# Altium schematic symbol library Cellular.SchLib: 3 symbols
Pins are listed as number, name and electrical type; pins without a type are passive.

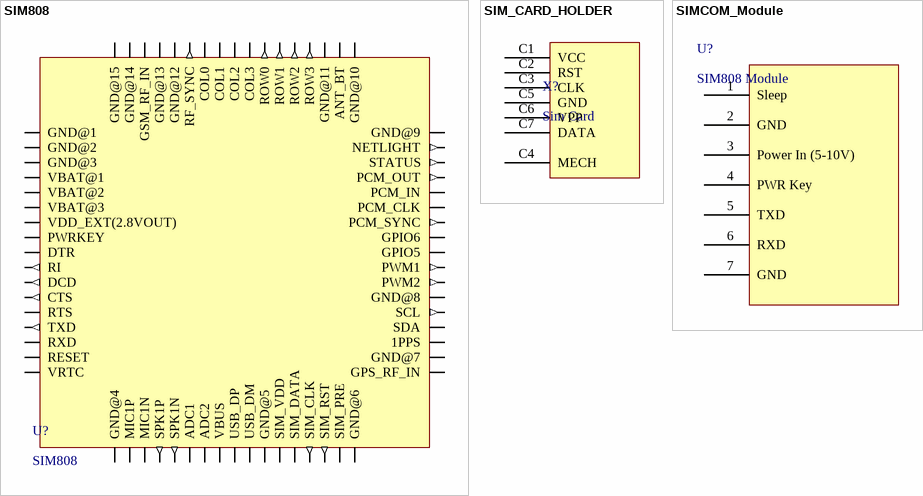
[diagram p0: symbols SIM808 to SIMCOM_Module]

## SIM808
designator U?
GSM, GPRS, GPS Module (2G) by SIMCOM
footprint SIM808
pins: P$1 GND@1 (power), P$2 GND@2 (power), P$3 GND@3 (power), P$4 VBAT@1 (power), P$5 VBAT@2 (power), P$6 VBAT@3 (power), P$7 VDD_EXT(2.8VOUT) (power), P$8 PWRKEY, P$9 DTR, P$10 RI (out), P$11 DCD (out), P$12 CTS (out), P$13 RTS, P$14 TXD (out), P$15 RXD, P$16 RESET, P$17 VRTC (power), P$18 GND@4 (power), P$19 MIC1P, P$20 MIC1N, P$21 SPK1P (out), P$22 SPK1N (out), P$23 ADC1, P$24 ADC2, P$25 VBUS (power), P$26 USB_DP, P$27 USB_DM, P$28 GND@5 (power), P$29 SIM_VDD (power), P$30 SIM_DATA, P$31 SIM_CLK (out), P$32 SIM_RST (out), P$33 SIM_PRE, P$34 GND@6 (power), P$35 GPS_RF_IN, P$36 GND@7 (power), P$37 1PPS, P$38 SDA, P$39 SCL (out), P$40 GND@8 (power), P$41 PWM2 (out), P$42 PWM1 (out), P$43 GPIO5, P$44 GPIO6, P$45 PCM_SYNC (out), P$46 PCM_CLK, P$47 PCM_IN, P$48 PCM_OUT (out), P$49 STATUS (out), P$50 NETLIGHT (out), P$51 GND@9 (power), P$52 GND@10 (power), P$53 ANT_BT, P$54 GND@11 (power), P$55 ROW3 (out), P$56 ROW2 (out), P$57 ROW1 (out), P$58 ROW0 (out), P$59 COL3, P$60 COL2, P$61 COL1, P$62 COL0, P$63 RF_SYNC (out), P$64 GND@12 (power), P$65 GND@13 (power), P$66 GSM_RF_IN, P$67 GND@14 (power), P$68 GND@15 (power)

## SIM_CARD_HOLDER
designator X?, comment Sim Card
Sim card holder with locking; Supplier 1: Farnell; Supplier Part Number 1: 2060729
footprint 47388-2001 (SIM Card Holder)
pins: C1 VCC, C2 RST, C3 CLK, C4 MECH, C5 GND, C6 VPP, C7 DATA

## SIMCOM_Module
designator U?, comment SIM808 Module
And Group SIM808 Module
footprint SIM808_MODULE (And Group SIM808 Module)
pins: 1 Sleep, 2 GND, 3 Power In (5-10V), 4 PWR Key, 5 TXD, 6 RXD, 7 GND